# Altium schematic symbol library kmilo17pet-TI_RS232.SchLib: 1272 symbols (part 5 of 37)
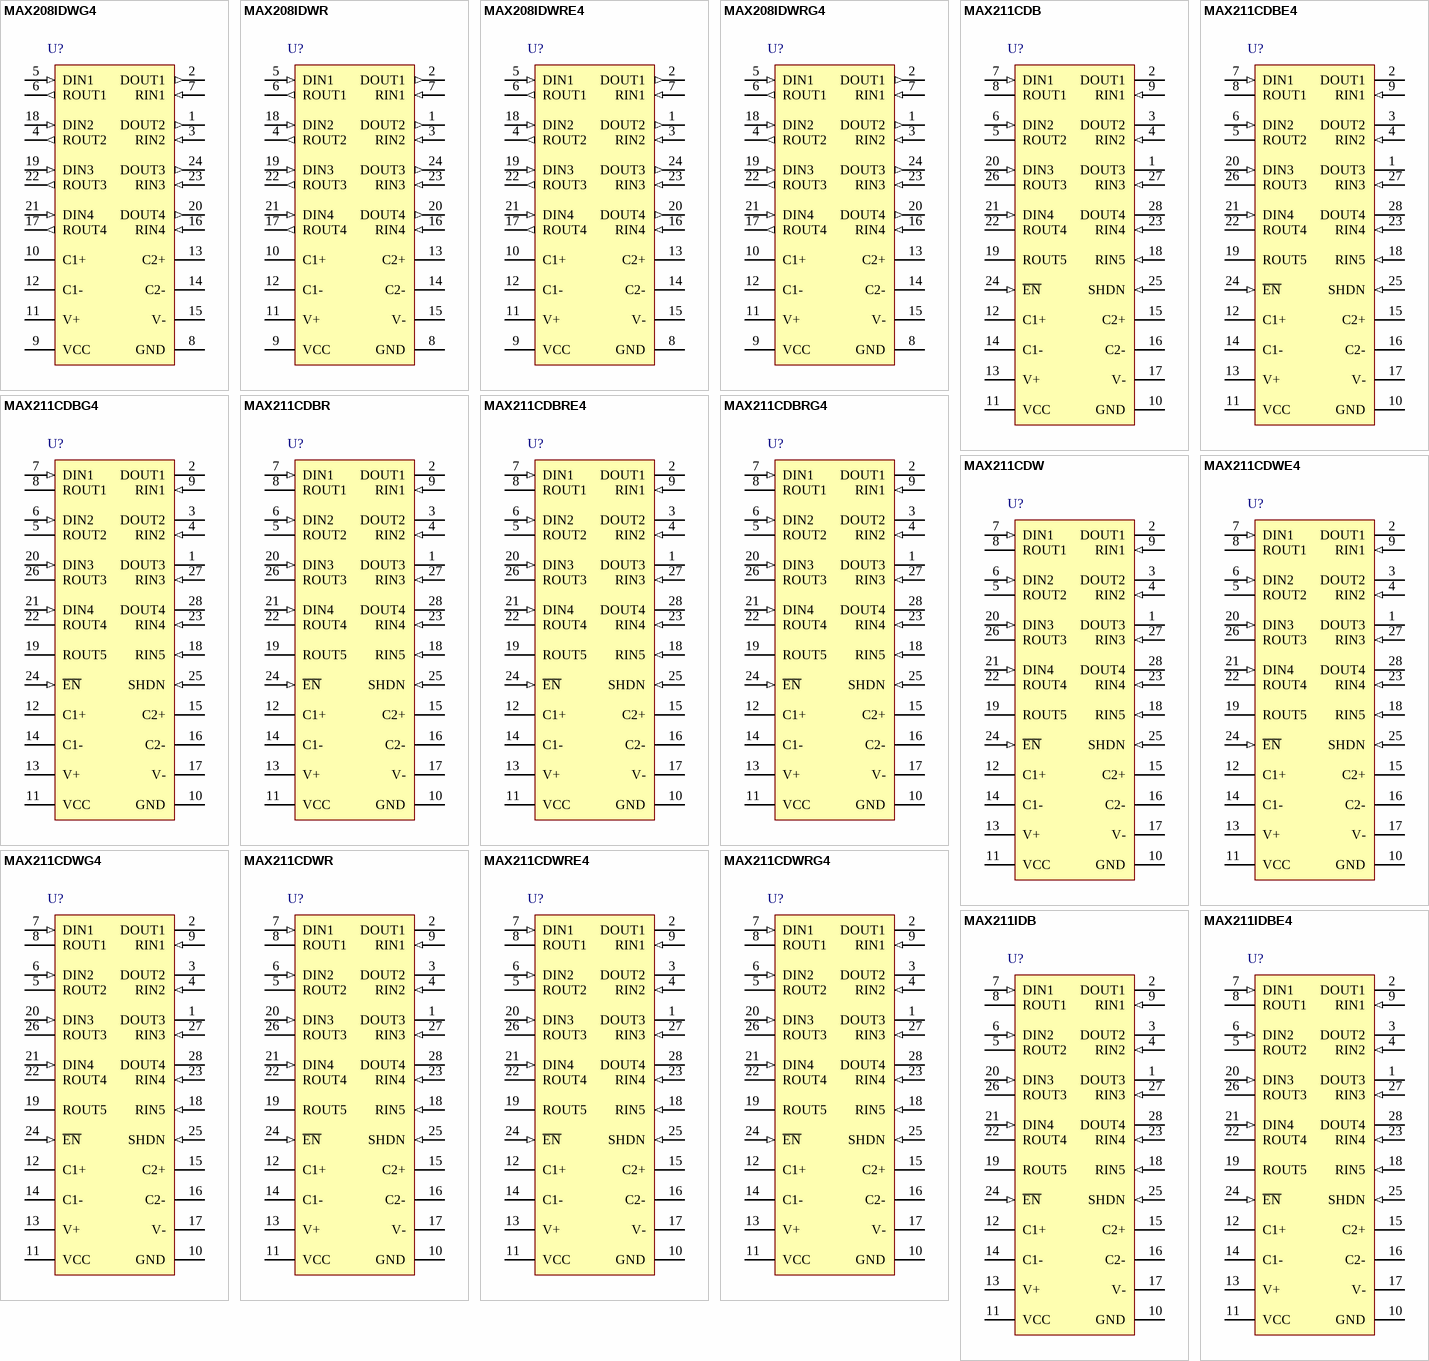
[diagram p58: symbols MAX208IDWG4 to MAX211IDBE4]

## MAX211IDB
designator U?
5-V Multichannel RS-232 Line Driver / Receiver with ±15-kV ESD Protection, -40 to 85 degC, 28-Pin SSOP (DB), Green (RoHS & no Sb/Br); Drivers Per Package: 4; Receivers Per Package: 5; ESD HBM(kV): +/-15; ICC(Max)(mA): 20; Single Supply: TRUE; DatasheetVersion: SLLS567E; PackageVersion: revE, Dec-2001; PackageReference: DB28; PackageDescription: 28-Pin Plastic Small Outline Package, 10.2 x 5.3 mm Body, 0.65 mm Pitch; SubFamily: RS-232; Supply Voltage(s)(V): 5; RS-232: TRUE; ComponentLink1Description: Manufacturer URL; ComponentLink1URL: www.ti.com; ComponentLink2Description: Datasheet; ComponentLink2URL: http://www.ti.com/general/docs/lit/getliterature.tsp?genericPartNumber=MAX211&fileType=pdf; ComponentLink3Description: Package Specification; ComponentLink3URL: http://www.ti.com/litv/pdf/msso002e
footprint TI-DB28_N (SOP, 28-Leads, Body 10.2x5.3mm, Pitch 0.65mm, IPC Medium Density)
footprint TI-DB28_L (SOP, 28-Leads, Body 10.2x5.3mm, Pitch 0.65mm, IPC High Density)
footprint TI-DB28_M (SOP, 28-Leads, Body 10.2x5.3mm, Pitch 0.65mm, IPC Low Density)
pins: 1 DOUT3 (hiz), 2 DOUT1 (hiz), 3 DOUT2 (hiz), 4 RIN2 (in), 5 ROUT2 (hiz), 6 DIN2 (in), 7 DIN1 (in), 8 ROUT1 (hiz), 9 RIN1 (in), 10 GND (power), 11 VCC (power), 12 C1+, 13 V+ (power), 14 C1-, 15 C2+, 16 C2-, 17 V- (power), 18 RIN5 (in), 19 ROUT5 (hiz), 20 DIN3 (in), 21 DIN4 (in), 22 ROUT4 (hiz), 23 RIN4 (in), 24 ~{EN} (in), 25 SHDN (in), 26 ROUT3 (hiz), 27 RIN3 (in), 28 DOUT4 (hiz)

## MAX211IDBE4
designator U?
5-V Multichannel RS-232 Line Driver / Receiver with ±15-kV ESD Protection, -40 to 85 degC, 28-Pin SSOP (DB), Green (RoHS & no Sb/Br); Drivers Per Package: 4; Receivers Per Package: 5; ESD HBM(kV): +/-15; ICC(Max)(mA): 20; Single Supply: TRUE; DatasheetVersion: SLLS567E; PackageVersion: revE, Dec-2001; PackageReference: DB28; PackageDescription: 28-Pin Plastic Small Outline Package, 10.2 x 5.3 mm Body, 0.65 mm Pitch; SubFamily: RS-232; Supply Voltage(s)(V): 5; RS-232: TRUE; ComponentLink1Description: Manufacturer URL; ComponentLink1URL: www.ti.com; ComponentLink2Description: Datasheet; ComponentLink2URL: http://www.ti.com/general/docs/lit/getliterature.tsp?genericPartNumber=MAX211&fileType=pdf; ComponentLink3Description: Package Specification; ComponentLink3URL: http://www.ti.com/litv/pdf/msso002e
footprint TI-DB28_N (SOP, 28-Leads, Body 10.2x5.3mm, Pitch 0.65mm, IPC Medium Density)
footprint TI-DB28_L (SOP, 28-Leads, Body 10.2x5.3mm, Pitch 0.65mm, IPC High Density)
footprint TI-DB28_M (SOP, 28-Leads, Body 10.2x5.3mm, Pitch 0.65mm, IPC Low Density)
pins: 1 DOUT3 (hiz), 2 DOUT1 (hiz), 3 DOUT2 (hiz), 4 RIN2 (in), 5 ROUT2 (hiz), 6 DIN2 (in), 7 DIN1 (in), 8 ROUT1 (hiz), 9 RIN1 (in), 10 GND (power), 11 VCC (power), 12 C1+, 13 V+ (power), 14 C1-, 15 C2+, 16 C2-, 17 V- (power), 18 RIN5 (in), 19 ROUT5 (hiz), 20 DIN3 (in), 21 DIN4 (in), 22 ROUT4 (hiz), 23 RIN4 (in), 24 ~{EN} (in), 25 SHDN (in), 26 ROUT3 (hiz), 27 RIN3 (in), 28 DOUT4 (hiz)

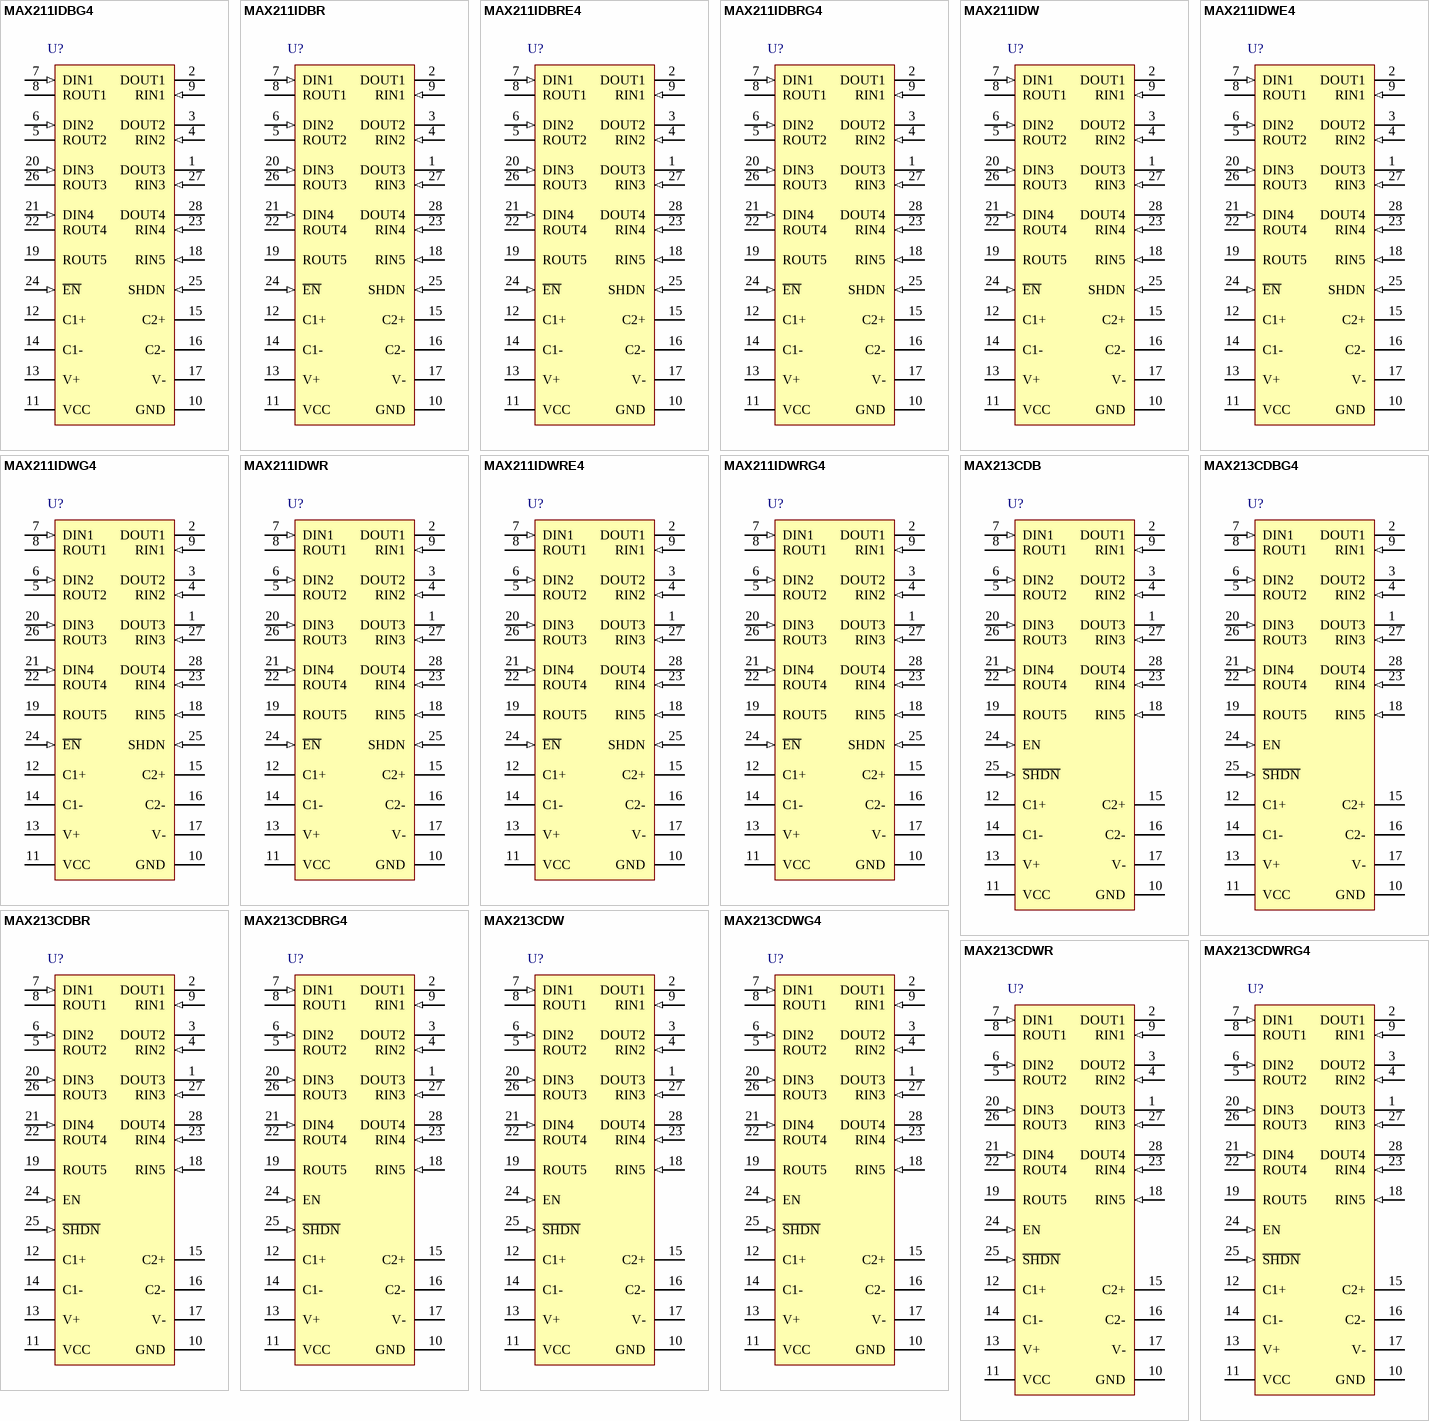
[diagram p6: symbols MAX211IDBG4 to MAX213CDWRG4]

## MAX211IDBG4
designator U?
5-V Multichannel RS-232 Line Driver / Receiver with ±15-kV ESD Protection, -40 to 85 degC, 28-Pin SSOP (DB), Green (RoHS & no Sb/Br); Drivers Per Package: 4; Receivers Per Package: 5; ESD HBM(kV): +/-15; ICC(Max)(mA): 20; Single Supply: TRUE; DatasheetVersion: SLLS567E; PackageVersion: revE, Dec-2001; PackageReference: DB28; PackageDescription: 28-Pin Plastic Small Outline Package, 10.2 x 5.3 mm Body, 0.65 mm Pitch; SubFamily: RS-232; Supply Voltage(s)(V): 5; RS-232: TRUE; ComponentLink1Description: Manufacturer URL; ComponentLink1URL: www.ti.com; ComponentLink2Description: Datasheet; ComponentLink2URL: http://www.ti.com/general/docs/lit/getliterature.tsp?genericPartNumber=MAX211&fileType=pdf; ComponentLink3Description: Package Specification; ComponentLink3URL: http://www.ti.com/litv/pdf/msso002e
footprint TI-DB28_N (SOP, 28-Leads, Body 10.2x5.3mm, Pitch 0.65mm, IPC Medium Density)
footprint TI-DB28_L (SOP, 28-Leads, Body 10.2x5.3mm, Pitch 0.65mm, IPC High Density)
footprint TI-DB28_M (SOP, 28-Leads, Body 10.2x5.3mm, Pitch 0.65mm, IPC Low Density)
pins: 1 DOUT3 (hiz), 2 DOUT1 (hiz), 3 DOUT2 (hiz), 4 RIN2 (in), 5 ROUT2 (hiz), 6 DIN2 (in), 7 DIN1 (in), 8 ROUT1 (hiz), 9 RIN1 (in), 10 GND (power), 11 VCC (power), 12 C1+, 13 V+ (power), 14 C1-, 15 C2+, 16 C2-, 17 V- (power), 18 RIN5 (in), 19 ROUT5 (hiz), 20 DIN3 (in), 21 DIN4 (in), 22 ROUT4 (hiz), 23 RIN4 (in), 24 ~{EN} (in), 25 SHDN (in), 26 ROUT3 (hiz), 27 RIN3 (in), 28 DOUT4 (hiz)

## MAX211IDBR
designator U?
5-V Multichannel RS-232 Line Driver / Receiver with ±15-kV ESD Protection, -40 to 85 degC, 28-Pin SSOP (DB), Green (RoHS & no Sb/Br); Drivers Per Package: 4; Receivers Per Package: 5; ESD HBM(kV): +/-15; ICC(Max)(mA): 20; Single Supply: TRUE; DatasheetVersion: SLLS567E; PackageVersion: revE, Dec-2001; PackageReference: DB28; PackageDescription: 28-Pin Plastic Small Outline Package, 10.2 x 5.3 mm Body, 0.65 mm Pitch; SubFamily: RS-232; Supply Voltage(s)(V): 5; RS-232: TRUE; ComponentLink1Description: Manufacturer URL; ComponentLink1URL: www.ti.com; ComponentLink2Description: Datasheet; ComponentLink2URL: http://www.ti.com/general/docs/lit/getliterature.tsp?genericPartNumber=MAX211&fileType=pdf; ComponentLink3Description: Package Specification; ComponentLink3URL: http://www.ti.com/litv/pdf/msso002e
footprint TI-DB28_N (SOP, 28-Leads, Body 10.2x5.3mm, Pitch 0.65mm, IPC Medium Density)
footprint TI-DB28_L (SOP, 28-Leads, Body 10.2x5.3mm, Pitch 0.65mm, IPC High Density)
footprint TI-DB28_M (SOP, 28-Leads, Body 10.2x5.3mm, Pitch 0.65mm, IPC Low Density)
pins: 1 DOUT3 (hiz), 2 DOUT1 (hiz), 3 DOUT2 (hiz), 4 RIN2 (in), 5 ROUT2 (hiz), 6 DIN2 (in), 7 DIN1 (in), 8 ROUT1 (hiz), 9 RIN1 (in), 10 GND (power), 11 VCC (power), 12 C1+, 13 V+ (power), 14 C1-, 15 C2+, 16 C2-, 17 V- (power), 18 RIN5 (in), 19 ROUT5 (hiz), 20 DIN3 (in), 21 DIN4 (in), 22 ROUT4 (hiz), 23 RIN4 (in), 24 ~{EN} (in), 25 SHDN (in), 26 ROUT3 (hiz), 27 RIN3 (in), 28 DOUT4 (hiz)

## MAX211IDBRE4
designator U?
5-V Multichannel RS-232 Line Driver / Receiver with ±15-kV ESD Protection, -40 to 85 degC, 28-Pin SSOP (DB), Green (RoHS & no Sb/Br); Drivers Per Package: 4; Receivers Per Package: 5; ESD HBM(kV): +/-15; ICC(Max)(mA): 20; Single Supply: TRUE; DatasheetVersion: SLLS567E; PackageVersion: revE, Dec-2001; PackageReference: DB28; PackageDescription: 28-Pin Plastic Small Outline Package, 10.2 x 5.3 mm Body, 0.65 mm Pitch; SubFamily: RS-232; Supply Voltage(s)(V): 5; RS-232: TRUE; ComponentLink1Description: Manufacturer URL; ComponentLink1URL: www.ti.com; ComponentLink2Description: Datasheet; ComponentLink2URL: http://www.ti.com/general/docs/lit/getliterature.tsp?genericPartNumber=MAX211&fileType=pdf; ComponentLink3Description: Package Specification; ComponentLink3URL: http://www.ti.com/litv/pdf/msso002e
footprint TI-DB28_N (SOP, 28-Leads, Body 10.2x5.3mm, Pitch 0.65mm, IPC Medium Density)
footprint TI-DB28_L (SOP, 28-Leads, Body 10.2x5.3mm, Pitch 0.65mm, IPC High Density)
footprint TI-DB28_M (SOP, 28-Leads, Body 10.2x5.3mm, Pitch 0.65mm, IPC Low Density)
pins: 1 DOUT3 (hiz), 2 DOUT1 (hiz), 3 DOUT2 (hiz), 4 RIN2 (in), 5 ROUT2 (hiz), 6 DIN2 (in), 7 DIN1 (in), 8 ROUT1 (hiz), 9 RIN1 (in), 10 GND (power), 11 VCC (power), 12 C1+, 13 V+ (power), 14 C1-, 15 C2+, 16 C2-, 17 V- (power), 18 RIN5 (in), 19 ROUT5 (hiz), 20 DIN3 (in), 21 DIN4 (in), 22 ROUT4 (hiz), 23 RIN4 (in), 24 ~{EN} (in), 25 SHDN (in), 26 ROUT3 (hiz), 27 RIN3 (in), 28 DOUT4 (hiz)

## MAX211IDBRG4
designator U?
5-V Multichannel RS-232 Line Driver / Receiver with ±15-kV ESD Protection, -40 to 85 degC, 28-Pin SSOP (DB), Green (RoHS & no Sb/Br); Drivers Per Package: 4; Receivers Per Package: 5; ESD HBM(kV): +/-15; ICC(Max)(mA): 20; Single Supply: TRUE; DatasheetVersion: SLLS567E; PackageVersion: revE, Dec-2001; PackageReference: DB28; PackageDescription: 28-Pin Plastic Small Outline Package, 10.2 x 5.3 mm Body, 0.65 mm Pitch; SubFamily: RS-232; Supply Voltage(s)(V): 5; RS-232: TRUE; ComponentLink1Description: Manufacturer URL; ComponentLink1URL: www.ti.com; ComponentLink2Description: Datasheet; ComponentLink2URL: http://www.ti.com/general/docs/lit/getliterature.tsp?genericPartNumber=MAX211&fileType=pdf; ComponentLink3Description: Package Specification; ComponentLink3URL: http://www.ti.com/litv/pdf/msso002e
footprint TI-DB28_N (SOP, 28-Leads, Body 10.2x5.3mm, Pitch 0.65mm, IPC Medium Density)
footprint TI-DB28_L (SOP, 28-Leads, Body 10.2x5.3mm, Pitch 0.65mm, IPC High Density)
footprint TI-DB28_M (SOP, 28-Leads, Body 10.2x5.3mm, Pitch 0.65mm, IPC Low Density)
pins: 1 DOUT3 (hiz), 2 DOUT1 (hiz), 3 DOUT2 (hiz), 4 RIN2 (in), 5 ROUT2 (hiz), 6 DIN2 (in), 7 DIN1 (in), 8 ROUT1 (hiz), 9 RIN1 (in), 10 GND (power), 11 VCC (power), 12 C1+, 13 V+ (power), 14 C1-, 15 C2+, 16 C2-, 17 V- (power), 18 RIN5 (in), 19 ROUT5 (hiz), 20 DIN3 (in), 21 DIN4 (in), 22 ROUT4 (hiz), 23 RIN4 (in), 24 ~{EN} (in), 25 SHDN (in), 26 ROUT3 (hiz), 27 RIN3 (in), 28 DOUT4 (hiz)

## MAX211IDW
designator U?
5-V Multichannel RS-232 Line Driver / Receiver with ±15-kV ESD Protection, -40 to 85 degC, 28-Pin SOIC (DW), Green (RoHS & no Sb/Br); Drivers Per Package: 4; Receivers Per Package: 5; ESD HBM(kV): +/-15; ICC(Max)(mA): 20; Single Supply: TRUE; DatasheetVersion: SLLS567E; PackageVersion: revG, Jan-2011; PackageReference: DW28; PackageDescription: 28-Pin Plastic Small Outline Integrated Circuit, 17.9 x 7.5 mm, Pitch 1.27 mm Pitch; SubFamily: RS-232; Supply Voltage(s)(V): 5; RS-232: TRUE; ComponentLink1Description: Manufacturer URL; ComponentLink1URL: www.ti.com; ComponentLink2Description: Datasheet; ComponentLink2URL: http://www.ti.com/general/docs/lit/getliterature.tsp?genericPartNumber=MAX211&fileType=pdf; ComponentLink3Description: Package Specification; ComponentLink3URL: http://www.ti.com/litv/pdf/mpds175a
footprint TI-DW28_N (SOIC, 28-Leads, Body 17.9x7.5mm, Pitch 1.27mm, IPC Medium Density)
footprint TI-DW28_L (SOIC, 28-Leads, Body 17.9x7.5mm, Pitch 1.27mm, IPC High Density)
footprint TI-DW28_M (SOIC, 28-Leads, Body 17.9x7.5mm, Pitch 1.27mm, IPC Low Density)
pins: 1 DOUT3 (hiz), 2 DOUT1 (hiz), 3 DOUT2 (hiz), 4 RIN2 (in), 5 ROUT2 (hiz), 6 DIN2 (in), 7 DIN1 (in), 8 ROUT1 (hiz), 9 RIN1 (in), 10 GND (power), 11 VCC (power), 12 C1+, 13 V+ (power), 14 C1-, 15 C2+, 16 C2-, 17 V- (power), 18 RIN5 (in), 19 ROUT5 (hiz), 20 DIN3 (in), 21 DIN4 (in), 22 ROUT4 (hiz), 23 RIN4 (in), 24 ~{EN} (in), 25 SHDN (in), 26 ROUT3 (hiz), 27 RIN3 (in), 28 DOUT4 (hiz)

## MAX211IDWE4
designator U?
5-V Multichannel RS-232 Line Driver / Receiver with ±15-kV ESD Protection, -40 to 85 degC, 28-Pin SOIC (DW), Green (RoHS & no Sb/Br); Drivers Per Package: 4; Receivers Per Package: 5; ESD HBM(kV): +/-15; ICC(Max)(mA): 20; Single Supply: TRUE; DatasheetVersion: SLLS567E; PackageVersion: revG, Jan-2011; PackageReference: DW28; PackageDescription: 28-Pin Plastic Small Outline Integrated Circuit, 17.9 x 7.5 mm, Pitch 1.27 mm Pitch; SubFamily: RS-232; Supply Voltage(s)(V): 5; RS-232: TRUE; ComponentLink1Description: Manufacturer URL; ComponentLink1URL: www.ti.com; ComponentLink2Description: Datasheet; ComponentLink2URL: http://www.ti.com/general/docs/lit/getliterature.tsp?genericPartNumber=MAX211&fileType=pdf; ComponentLink3Description: Package Specification; ComponentLink3URL: http://www.ti.com/litv/pdf/mpds175a
footprint TI-DW28_N (SOIC, 28-Leads, Body 17.9x7.5mm, Pitch 1.27mm, IPC Medium Density)
footprint TI-DW28_L (SOIC, 28-Leads, Body 17.9x7.5mm, Pitch 1.27mm, IPC High Density)
footprint TI-DW28_M (SOIC, 28-Leads, Body 17.9x7.5mm, Pitch 1.27mm, IPC Low Density)
pins: 1 DOUT3 (hiz), 2 DOUT1 (hiz), 3 DOUT2 (hiz), 4 RIN2 (in), 5 ROUT2 (hiz), 6 DIN2 (in), 7 DIN1 (in), 8 ROUT1 (hiz), 9 RIN1 (in), 10 GND (power), 11 VCC (power), 12 C1+, 13 V+ (power), 14 C1-, 15 C2+, 16 C2-, 17 V- (power), 18 RIN5 (in), 19 ROUT5 (hiz), 20 DIN3 (in), 21 DIN4 (in), 22 ROUT4 (hiz), 23 RIN4 (in), 24 ~{EN} (in), 25 SHDN (in), 26 ROUT3 (hiz), 27 RIN3 (in), 28 DOUT4 (hiz)

## MAX211IDWG4
designator U?
5-V Multichannel RS-232 Line Driver / Receiver with ±15-kV ESD Protection, -40 to 85 degC, 28-Pin SOIC (DW), Green (RoHS & no Sb/Br); Drivers Per Package: 4; Receivers Per Package: 5; ESD HBM(kV): +/-15; ICC(Max)(mA): 20; Single Supply: TRUE; DatasheetVersion: SLLS567E; PackageVersion: revG, Jan-2011; PackageReference: DW28; PackageDescription: 28-Pin Plastic Small Outline Integrated Circuit, 17.9 x 7.5 mm, Pitch 1.27 mm Pitch; SubFamily: RS-232; Supply Voltage(s)(V): 5; RS-232: TRUE; ComponentLink1Description: Manufacturer URL; ComponentLink1URL: www.ti.com; ComponentLink2Description: Datasheet; ComponentLink2URL: http://www.ti.com/general/docs/lit/getliterature.tsp?genericPartNumber=MAX211&fileType=pdf; ComponentLink3Description: Package Specification; ComponentLink3URL: http://www.ti.com/litv/pdf/mpds175a
footprint TI-DW28_N (SOIC, 28-Leads, Body 17.9x7.5mm, Pitch 1.27mm, IPC Medium Density)
footprint TI-DW28_L (SOIC, 28-Leads, Body 17.9x7.5mm, Pitch 1.27mm, IPC High Density)
footprint TI-DW28_M (SOIC, 28-Leads, Body 17.9x7.5mm, Pitch 1.27mm, IPC Low Density)
pins: 1 DOUT3 (hiz), 2 DOUT1 (hiz), 3 DOUT2 (hiz), 4 RIN2 (in), 5 ROUT2 (hiz), 6 DIN2 (in), 7 DIN1 (in), 8 ROUT1 (hiz), 9 RIN1 (in), 10 GND (power), 11 VCC (power), 12 C1+, 13 V+ (power), 14 C1-, 15 C2+, 16 C2-, 17 V- (power), 18 RIN5 (in), 19 ROUT5 (hiz), 20 DIN3 (in), 21 DIN4 (in), 22 ROUT4 (hiz), 23 RIN4 (in), 24 ~{EN} (in), 25 SHDN (in), 26 ROUT3 (hiz), 27 RIN3 (in), 28 DOUT4 (hiz)

## MAX211IDWR
designator U?
5-V Multichannel RS-232 Line Driver / Receiver with ±15-kV ESD Protection, -40 to 85 degC, 28-Pin SOIC (DW), Green (RoHS & no Sb/Br); Drivers Per Package: 4; Receivers Per Package: 5; ESD HBM(kV): +/-15; ICC(Max)(mA): 20; Single Supply: TRUE; DatasheetVersion: SLLS567E; PackageVersion: revG, Jan-2011; PackageReference: DW28; PackageDescription: 28-Pin Plastic Small Outline Integrated Circuit, 17.9 x 7.5 mm, Pitch 1.27 mm Pitch; SubFamily: RS-232; Supply Voltage(s)(V): 5; RS-232: TRUE; ComponentLink1Description: Manufacturer URL; ComponentLink1URL: www.ti.com; ComponentLink2Description: Datasheet; ComponentLink2URL: http://www.ti.com/general/docs/lit/getliterature.tsp?genericPartNumber=MAX211&fileType=pdf; ComponentLink3Description: Package Specification; ComponentLink3URL: http://www.ti.com/litv/pdf/mpds175a
footprint TI-DW28_N (SOIC, 28-Leads, Body 17.9x7.5mm, Pitch 1.27mm, IPC Medium Density)
footprint TI-DW28_L (SOIC, 28-Leads, Body 17.9x7.5mm, Pitch 1.27mm, IPC High Density)
footprint TI-DW28_M (SOIC, 28-Leads, Body 17.9x7.5mm, Pitch 1.27mm, IPC Low Density)
pins: 1 DOUT3 (hiz), 2 DOUT1 (hiz), 3 DOUT2 (hiz), 4 RIN2 (in), 5 ROUT2 (hiz), 6 DIN2 (in), 7 DIN1 (in), 8 ROUT1 (hiz), 9 RIN1 (in), 10 GND (power), 11 VCC (power), 12 C1+, 13 V+ (power), 14 C1-, 15 C2+, 16 C2-, 17 V- (power), 18 RIN5 (in), 19 ROUT5 (hiz), 20 DIN3 (in), 21 DIN4 (in), 22 ROUT4 (hiz), 23 RIN4 (in), 24 ~{EN} (in), 25 SHDN (in), 26 ROUT3 (hiz), 27 RIN3 (in), 28 DOUT4 (hiz)

## MAX211IDWRE4
designator U?
5-V Multichannel RS-232 Line Driver / Receiver with ±15-kV ESD Protection, -40 to 85 degC, 28-Pin SOIC (DW), Green (RoHS & no Sb/Br); Drivers Per Package: 4; Receivers Per Package: 5; ESD HBM(kV): +/-15; ICC(Max)(mA): 20; Single Supply: TRUE; DatasheetVersion: SLLS567E; PackageVersion: revG, Jan-2011; PackageReference: DW28; PackageDescription: 28-Pin Plastic Small Outline Integrated Circuit, 17.9 x 7.5 mm, Pitch 1.27 mm Pitch; SubFamily: RS-232; Supply Voltage(s)(V): 5; RS-232: TRUE; ComponentLink1Description: Manufacturer URL; ComponentLink1URL: www.ti.com; ComponentLink2Description: Datasheet; ComponentLink2URL: http://www.ti.com/general/docs/lit/getliterature.tsp?genericPartNumber=MAX211&fileType=pdf; ComponentLink3Description: Package Specification; ComponentLink3URL: http://www.ti.com/litv/pdf/mpds175a
footprint TI-DW28_N (SOIC, 28-Leads, Body 17.9x7.5mm, Pitch 1.27mm, IPC Medium Density)
footprint TI-DW28_L (SOIC, 28-Leads, Body 17.9x7.5mm, Pitch 1.27mm, IPC High Density)
footprint TI-DW28_M (SOIC, 28-Leads, Body 17.9x7.5mm, Pitch 1.27mm, IPC Low Density)
pins: 1 DOUT3 (hiz), 2 DOUT1 (hiz), 3 DOUT2 (hiz), 4 RIN2 (in), 5 ROUT2 (hiz), 6 DIN2 (in), 7 DIN1 (in), 8 ROUT1 (hiz), 9 RIN1 (in), 10 GND (power), 11 VCC (power), 12 C1+, 13 V+ (power), 14 C1-, 15 C2+, 16 C2-, 17 V- (power), 18 RIN5 (in), 19 ROUT5 (hiz), 20 DIN3 (in), 21 DIN4 (in), 22 ROUT4 (hiz), 23 RIN4 (in), 24 ~{EN} (in), 25 SHDN (in), 26 ROUT3 (hiz), 27 RIN3 (in), 28 DOUT4 (hiz)

## MAX211IDWRG4
designator U?
5-V Multichannel RS-232 Line Driver / Receiver with ±15-kV ESD Protection, -40 to 85 degC, 28-Pin SOIC (DW), Green (RoHS & no Sb/Br); Drivers Per Package: 4; Receivers Per Package: 5; ESD HBM(kV): +/-15; ICC(Max)(mA): 20; Single Supply: TRUE; DatasheetVersion: SLLS567E; PackageVersion: revG, Jan-2011; PackageReference: DW28; PackageDescription: 28-Pin Plastic Small Outline Integrated Circuit, 17.9 x 7.5 mm, Pitch 1.27 mm Pitch; SubFamily: RS-232; Supply Voltage(s)(V): 5; RS-232: TRUE; ComponentLink1Description: Manufacturer URL; ComponentLink1URL: www.ti.com; ComponentLink2Description: Datasheet; ComponentLink2URL: http://www.ti.com/general/docs/lit/getliterature.tsp?genericPartNumber=MAX211&fileType=pdf; ComponentLink3Description: Package Specification; ComponentLink3URL: http://www.ti.com/litv/pdf/mpds175a
footprint TI-DW28_N (SOIC, 28-Leads, Body 17.9x7.5mm, Pitch 1.27mm, IPC Medium Density)
footprint TI-DW28_L (SOIC, 28-Leads, Body 17.9x7.5mm, Pitch 1.27mm, IPC High Density)
footprint TI-DW28_M (SOIC, 28-Leads, Body 17.9x7.5mm, Pitch 1.27mm, IPC Low Density)
pins: 1 DOUT3 (hiz), 2 DOUT1 (hiz), 3 DOUT2 (hiz), 4 RIN2 (in), 5 ROUT2 (hiz), 6 DIN2 (in), 7 DIN1 (in), 8 ROUT1 (hiz), 9 RIN1 (in), 10 GND (power), 11 VCC (power), 12 C1+, 13 V+ (power), 14 C1-, 15 C2+, 16 C2-, 17 V- (power), 18 RIN5 (in), 19 ROUT5 (hiz), 20 DIN3 (in), 21 DIN4 (in), 22 ROUT4 (hiz), 23 RIN4 (in), 24 ~{EN} (in), 25 SHDN (in), 26 ROUT3 (hiz), 27 RIN3 (in), 28 DOUT4 (hiz)

## MAX213CDB
designator U?
5-V Multichannel RS-232 Line Driver / Receiver with ±15-kV ESD Protection, 0 to 70 degC, 28-Pin SSOP (DB), Green (RoHS & no Sb/Br); Drivers Per Package: 4; Receivers Per Package: 5; ESD HBM(kV): +/-15; ICC(Max)(mA): 20; Single Supply: TRUE; DatasheetVersion: SLLS680; PackageVersion: revE, Dec-2001; PackageReference: DB28; PackageDescription: 28-Pin Plastic Small Outline Package, 10.2 x 5.3 mm Body, 0.65 mm Pitch; SubFamily: RS-232; Supply Voltage(s)(V): 5; RS-232: TRUE; ComponentLink1Description: Manufacturer URL; ComponentLink1URL: www.ti.com; ComponentLink2Description: Datasheet; ComponentLink2URL: http://www.ti.com/general/docs/lit/getliterature.tsp?genericPartNumber=MAX213&fileType=pdf; ComponentLink3Description: Package Specification; ComponentLink3URL: http://www.ti.com/litv/pdf/msso002e
footprint TI-DB28_N (SOP, 28-Leads, Body 10.2x5.3mm, Pitch 0.65mm, IPC Medium Density)
footprint TI-DB28_L (SOP, 28-Leads, Body 10.2x5.3mm, Pitch 0.65mm, IPC High Density)
footprint TI-DB28_M (SOP, 28-Leads, Body 10.2x5.3mm, Pitch 0.65mm, IPC Low Density)
pins: 1 DOUT3 (hiz), 2 DOUT1 (hiz), 3 DOUT2 (hiz), 4 RIN2 (in), 5 ROUT2 (hiz), 6 DIN2 (in), 7 DIN1 (in), 8 ROUT1 (hiz), 9 RIN1 (in), 10 GND (power), 11 VCC (power), 12 C1+, 13 V+ (power), 14 C1-, 15 C2+, 16 C2-, 17 V- (power), 18 RIN5 (in), 19 ROUT5 (hiz), 20 DIN3 (in), 21 DIN4 (in), 22 ROUT4 (hiz), 23 RIN4 (in), 24 EN (in), 25 ~{SHDN} (in), 26 ROUT3 (hiz), 27 RIN3 (in), 28 DOUT4 (hiz)

## MAX213CDBG4
designator U?
5-V Multichannel RS-232 Line Driver / Receiver with ±15-kV ESD Protection, 0 to 70 degC, 28-Pin SSOP (DB), Green (RoHS & no Sb/Br); Drivers Per Package: 4; Receivers Per Package: 5; ESD HBM(kV): +/-15; ICC(Max)(mA): 20; Single Supply: TRUE; DatasheetVersion: SLLS680; PackageVersion: revE, Dec-2001; PackageReference: DB28; PackageDescription: 28-Pin Plastic Small Outline Package, 10.2 x 5.3 mm Body, 0.65 mm Pitch; SubFamily: RS-232; Supply Voltage(s)(V): 5; RS-232: TRUE; ComponentLink1Description: Manufacturer URL; ComponentLink1URL: www.ti.com; ComponentLink2Description: Datasheet; ComponentLink2URL: http://www.ti.com/general/docs/lit/getliterature.tsp?genericPartNumber=MAX213&fileType=pdf; ComponentLink3Description: Package Specification; ComponentLink3URL: http://www.ti.com/litv/pdf/msso002e
footprint TI-DB28_N (SOP, 28-Leads, Body 10.2x5.3mm, Pitch 0.65mm, IPC Medium Density)
footprint TI-DB28_L (SOP, 28-Leads, Body 10.2x5.3mm, Pitch 0.65mm, IPC High Density)
footprint TI-DB28_M (SOP, 28-Leads, Body 10.2x5.3mm, Pitch 0.65mm, IPC Low Density)
pins: 1 DOUT3 (hiz), 2 DOUT1 (hiz), 3 DOUT2 (hiz), 4 RIN2 (in), 5 ROUT2 (hiz), 6 DIN2 (in), 7 DIN1 (in), 8 ROUT1 (hiz), 9 RIN1 (in), 10 GND (power), 11 VCC (power), 12 C1+, 13 V+ (power), 14 C1-, 15 C2+, 16 C2-, 17 V- (power), 18 RIN5 (in), 19 ROUT5 (hiz), 20 DIN3 (in), 21 DIN4 (in), 22 ROUT4 (hiz), 23 RIN4 (in), 24 EN (in), 25 ~{SHDN} (in), 26 ROUT3 (hiz), 27 RIN3 (in), 28 DOUT4 (hiz)

## MAX213CDBR
designator U?
5-V Multichannel RS-232 Line Driver / Receiver with ±15-kV ESD Protection, 0 to 70 degC, 28-Pin SSOP (DB), Green (RoHS & no Sb/Br); Drivers Per Package: 4; Receivers Per Package: 5; ESD HBM(kV): +/-15; ICC(Max)(mA): 20; Single Supply: TRUE; DatasheetVersion: SLLS680; PackageVersion: revE, Dec-2001; PackageReference: DB28; PackageDescription: 28-Pin Plastic Small Outline Package, 10.2 x 5.3 mm Body, 0.65 mm Pitch; SubFamily: RS-232; Supply Voltage(s)(V): 5; RS-232: TRUE; ComponentLink1Description: Manufacturer URL; ComponentLink1URL: www.ti.com; ComponentLink2Description: Datasheet; ComponentLink2URL: http://www.ti.com/general/docs/lit/getliterature.tsp?genericPartNumber=MAX213&fileType=pdf; ComponentLink3Description: Package Specification; ComponentLink3URL: http://www.ti.com/litv/pdf/msso002e
footprint TI-DB28_N (SOP, 28-Leads, Body 10.2x5.3mm, Pitch 0.65mm, IPC Medium Density)
footprint TI-DB28_L (SOP, 28-Leads, Body 10.2x5.3mm, Pitch 0.65mm, IPC High Density)
footprint TI-DB28_M (SOP, 28-Leads, Body 10.2x5.3mm, Pitch 0.65mm, IPC Low Density)
pins: 1 DOUT3 (hiz), 2 DOUT1 (hiz), 3 DOUT2 (hiz), 4 RIN2 (in), 5 ROUT2 (hiz), 6 DIN2 (in), 7 DIN1 (in), 8 ROUT1 (hiz), 9 RIN1 (in), 10 GND (power), 11 VCC (power), 12 C1+, 13 V+ (power), 14 C1-, 15 C2+, 16 C2-, 17 V- (power), 18 RIN5 (in), 19 ROUT5 (hiz), 20 DIN3 (in), 21 DIN4 (in), 22 ROUT4 (hiz), 23 RIN4 (in), 24 EN (in), 25 ~{SHDN} (in), 26 ROUT3 (hiz), 27 RIN3 (in), 28 DOUT4 (hiz)

## MAX213CDBRG4
designator U?
5-V Multichannel RS-232 Line Driver / Receiver with ±15-kV ESD Protection, 0 to 70 degC, 28-Pin SSOP (DB), Green (RoHS & no Sb/Br); Drivers Per Package: 4; Receivers Per Package: 5; ESD HBM(kV): +/-15; ICC(Max)(mA): 20; Single Supply: TRUE; DatasheetVersion: SLLS680; PackageVersion: revE, Dec-2001; PackageReference: DB28; PackageDescription: 28-Pin Plastic Small Outline Package, 10.2 x 5.3 mm Body, 0.65 mm Pitch; SubFamily: RS-232; Supply Voltage(s)(V): 5; RS-232: TRUE; ComponentLink1Description: Manufacturer URL; ComponentLink1URL: www.ti.com; ComponentLink2Description: Datasheet; ComponentLink2URL: http://www.ti.com/general/docs/lit/getliterature.tsp?genericPartNumber=MAX213&fileType=pdf; ComponentLink3Description: Package Specification; ComponentLink3URL: http://www.ti.com/litv/pdf/msso002e
footprint TI-DB28_N (SOP, 28-Leads, Body 10.2x5.3mm, Pitch 0.65mm, IPC Medium Density)
footprint TI-DB28_L (SOP, 28-Leads, Body 10.2x5.3mm, Pitch 0.65mm, IPC High Density)
footprint TI-DB28_M (SOP, 28-Leads, Body 10.2x5.3mm, Pitch 0.65mm, IPC Low Density)
pins: 1 DOUT3 (hiz), 2 DOUT1 (hiz), 3 DOUT2 (hiz), 4 RIN2 (in), 5 ROUT2 (hiz), 6 DIN2 (in), 7 DIN1 (in), 8 ROUT1 (hiz), 9 RIN1 (in), 10 GND (power), 11 VCC (power), 12 C1+, 13 V+ (power), 14 C1-, 15 C2+, 16 C2-, 17 V- (power), 18 RIN5 (in), 19 ROUT5 (hiz), 20 DIN3 (in), 21 DIN4 (in), 22 ROUT4 (hiz), 23 RIN4 (in), 24 EN (in), 25 ~{SHDN} (in), 26 ROUT3 (hiz), 27 RIN3 (in), 28 DOUT4 (hiz)

## MAX213CDW
designator U?
5-V Multichannel RS-232 Line Driver / Receiver with ±15-kV ESD Protection, 0 to 70 degC, 28-Pin SOIC (DW), Green (RoHS & no Sb/Br); Drivers Per Package: 4; Receivers Per Package: 5; ESD HBM(kV): +/-15; ICC(Max)(mA): 20; Single Supply: TRUE; DatasheetVersion: SLLS680; PackageVersion: revG, Jan-2011; PackageReference: DW28; PackageDescription: 28-Pin Plastic Small Outline Integrated Circuit, 17.9 x 7.5 mm, Pitch 1.27 mm Pitch; SubFamily: RS-232; Supply Voltage(s)(V): 5; RS-232: TRUE; ComponentLink1Description: Manufacturer URL; ComponentLink1URL: www.ti.com; ComponentLink2Description: Datasheet; ComponentLink2URL: http://www.ti.com/general/docs/lit/getliterature.tsp?genericPartNumber=MAX213&fileType=pdf; ComponentLink3Description: Package Specification; ComponentLink3URL: http://www.ti.com/litv/pdf/mpds175a
footprint TI-DW28_N (SOIC, 28-Leads, Body 17.9x7.5mm, Pitch 1.27mm, IPC Medium Density)
footprint TI-DW28_L (SOIC, 28-Leads, Body 17.9x7.5mm, Pitch 1.27mm, IPC High Density)
footprint TI-DW28_M (SOIC, 28-Leads, Body 17.9x7.5mm, Pitch 1.27mm, IPC Low Density)
pins: 1 DOUT3 (hiz), 2 DOUT1 (hiz), 3 DOUT2 (hiz), 4 RIN2 (in), 5 ROUT2 (hiz), 6 DIN2 (in), 7 DIN1 (in), 8 ROUT1 (hiz), 9 RIN1 (in), 10 GND (power), 11 VCC (power), 12 C1+, 13 V+ (power), 14 C1-, 15 C2+, 16 C2-, 17 V- (power), 18 RIN5 (in), 19 ROUT5 (hiz), 20 DIN3 (in), 21 DIN4 (in), 22 ROUT4 (hiz), 23 RIN4 (in), 24 EN (in), 25 ~{SHDN} (in), 26 ROUT3 (hiz), 27 RIN3 (in), 28 DOUT4 (hiz)

## MAX213CDWG4
designator U?
5-V Multichannel RS-232 Line Driver / Receiver with ±15-kV ESD Protection, 0 to 70 degC, 28-Pin SOIC (DW), Green (RoHS & no Sb/Br); Drivers Per Package: 4; Receivers Per Package: 5; ESD HBM(kV): +/-15; ICC(Max)(mA): 20; Single Supply: TRUE; DatasheetVersion: SLLS680; PackageVersion: revG, Jan-2011; PackageReference: DW28; PackageDescription: 28-Pin Plastic Small Outline Integrated Circuit, 17.9 x 7.5 mm, Pitch 1.27 mm Pitch; SubFamily: RS-232; Supply Voltage(s)(V): 5; RS-232: TRUE; ComponentLink1Description: Manufacturer URL; ComponentLink1URL: www.ti.com; ComponentLink2Description: Datasheet; ComponentLink2URL: http://www.ti.com/general/docs/lit/getliterature.tsp?genericPartNumber=MAX213&fileType=pdf; ComponentLink3Description: Package Specification; ComponentLink3URL: http://www.ti.com/litv/pdf/mpds175a
footprint TI-DW28_N (SOIC, 28-Leads, Body 17.9x7.5mm, Pitch 1.27mm, IPC Medium Density)
footprint TI-DW28_L (SOIC, 28-Leads, Body 17.9x7.5mm, Pitch 1.27mm, IPC High Density)
footprint TI-DW28_M (SOIC, 28-Leads, Body 17.9x7.5mm, Pitch 1.27mm, IPC Low Density)
pins: 1 DOUT3 (hiz), 2 DOUT1 (hiz), 3 DOUT2 (hiz), 4 RIN2 (in), 5 ROUT2 (hiz), 6 DIN2 (in), 7 DIN1 (in), 8 ROUT1 (hiz), 9 RIN1 (in), 10 GND (power), 11 VCC (power), 12 C1+, 13 V+ (power), 14 C1-, 15 C2+, 16 C2-, 17 V- (power), 18 RIN5 (in), 19 ROUT5 (hiz), 20 DIN3 (in), 21 DIN4 (in), 22 ROUT4 (hiz), 23 RIN4 (in), 24 EN (in), 25 ~{SHDN} (in), 26 ROUT3 (hiz), 27 RIN3 (in), 28 DOUT4 (hiz)

## MAX213CDWR
designator U?
5-V Multichannel RS-232 Line Driver / Receiver with ±15-kV ESD Protection, 0 to 70 degC, 28-Pin SOIC (DW), Green (RoHS & no Sb/Br); Drivers Per Package: 4; Receivers Per Package: 5; ESD HBM(kV): +/-15; ICC(Max)(mA): 20; Single Supply: TRUE; DatasheetVersion: SLLS680; PackageVersion: revG, Jan-2011; PackageReference: DW28; PackageDescription: 28-Pin Plastic Small Outline Integrated Circuit, 17.9 x 7.5 mm, Pitch 1.27 mm Pitch; SubFamily: RS-232; Supply Voltage(s)(V): 5; RS-232: TRUE; ComponentLink1Description: Manufacturer URL; ComponentLink1URL: www.ti.com; ComponentLink2Description: Datasheet; ComponentLink2URL: http://www.ti.com/general/docs/lit/getliterature.tsp?genericPartNumber=MAX213&fileType=pdf; ComponentLink3Description: Package Specification; ComponentLink3URL: http://www.ti.com/litv/pdf/mpds175a
footprint TI-DW28_N (SOIC, 28-Leads, Body 17.9x7.5mm, Pitch 1.27mm, IPC Medium Density)
footprint TI-DW28_L (SOIC, 28-Leads, Body 17.9x7.5mm, Pitch 1.27mm, IPC High Density)
footprint TI-DW28_M (SOIC, 28-Leads, Body 17.9x7.5mm, Pitch 1.27mm, IPC Low Density)
pins: 1 DOUT3 (hiz), 2 DOUT1 (hiz), 3 DOUT2 (hiz), 4 RIN2 (in), 5 ROUT2 (hiz), 6 DIN2 (in), 7 DIN1 (in), 8 ROUT1 (hiz), 9 RIN1 (in), 10 GND (power), 11 VCC (power), 12 C1+, 13 V+ (power), 14 C1-, 15 C2+, 16 C2-, 17 V- (power), 18 RIN5 (in), 19 ROUT5 (hiz), 20 DIN3 (in), 21 DIN4 (in), 22 ROUT4 (hiz), 23 RIN4 (in), 24 EN (in), 25 ~{SHDN} (in), 26 ROUT3 (hiz), 27 RIN3 (in), 28 DOUT4 (hiz)

## MAX213CDWRG4
designator U?
5-V Multichannel RS-232 Line Driver / Receiver with ±15-kV ESD Protection, 0 to 70 degC, 28-Pin SOIC (DW), Green (RoHS & no Sb/Br); Drivers Per Package: 4; Receivers Per Package: 5; ESD HBM(kV): +/-15; ICC(Max)(mA): 20; Single Supply: TRUE; DatasheetVersion: SLLS680; PackageVersion: revG, Jan-2011; PackageReference: DW28; PackageDescription: 28-Pin Plastic Small Outline Integrated Circuit, 17.9 x 7.5 mm, Pitch 1.27 mm Pitch; SubFamily: RS-232; Supply Voltage(s)(V): 5; RS-232: TRUE; ComponentLink1Description: Manufacturer URL; ComponentLink1URL: www.ti.com; ComponentLink2Description: Datasheet; ComponentLink2URL: http://www.ti.com/general/docs/lit/getliterature.tsp?genericPartNumber=MAX213&fileType=pdf; ComponentLink3Description: Package Specification; ComponentLink3URL: http://www.ti.com/litv/pdf/mpds175a
footprint TI-DW28_N (SOIC, 28-Leads, Body 17.9x7.5mm, Pitch 1.27mm, IPC Medium Density)
footprint TI-DW28_L (SOIC, 28-Leads, Body 17.9x7.5mm, Pitch 1.27mm, IPC High Density)
footprint TI-DW28_M (SOIC, 28-Leads, Body 17.9x7.5mm, Pitch 1.27mm, IPC Low Density)
pins: 1 DOUT3 (hiz), 2 DOUT1 (hiz), 3 DOUT2 (hiz), 4 RIN2 (in), 5 ROUT2 (hiz), 6 DIN2 (in), 7 DIN1 (in), 8 ROUT1 (hiz), 9 RIN1 (in), 10 GND (power), 11 VCC (power), 12 C1+, 13 V+ (power), 14 C1-, 15 C2+, 16 C2-, 17 V- (power), 18 RIN5 (in), 19 ROUT5 (hiz), 20 DIN3 (in), 21 DIN4 (in), 22 ROUT4 (hiz), 23 RIN4 (in), 24 EN (in), 25 ~{SHDN} (in), 26 ROUT3 (hiz), 27 RIN3 (in), 28 DOUT4 (hiz)

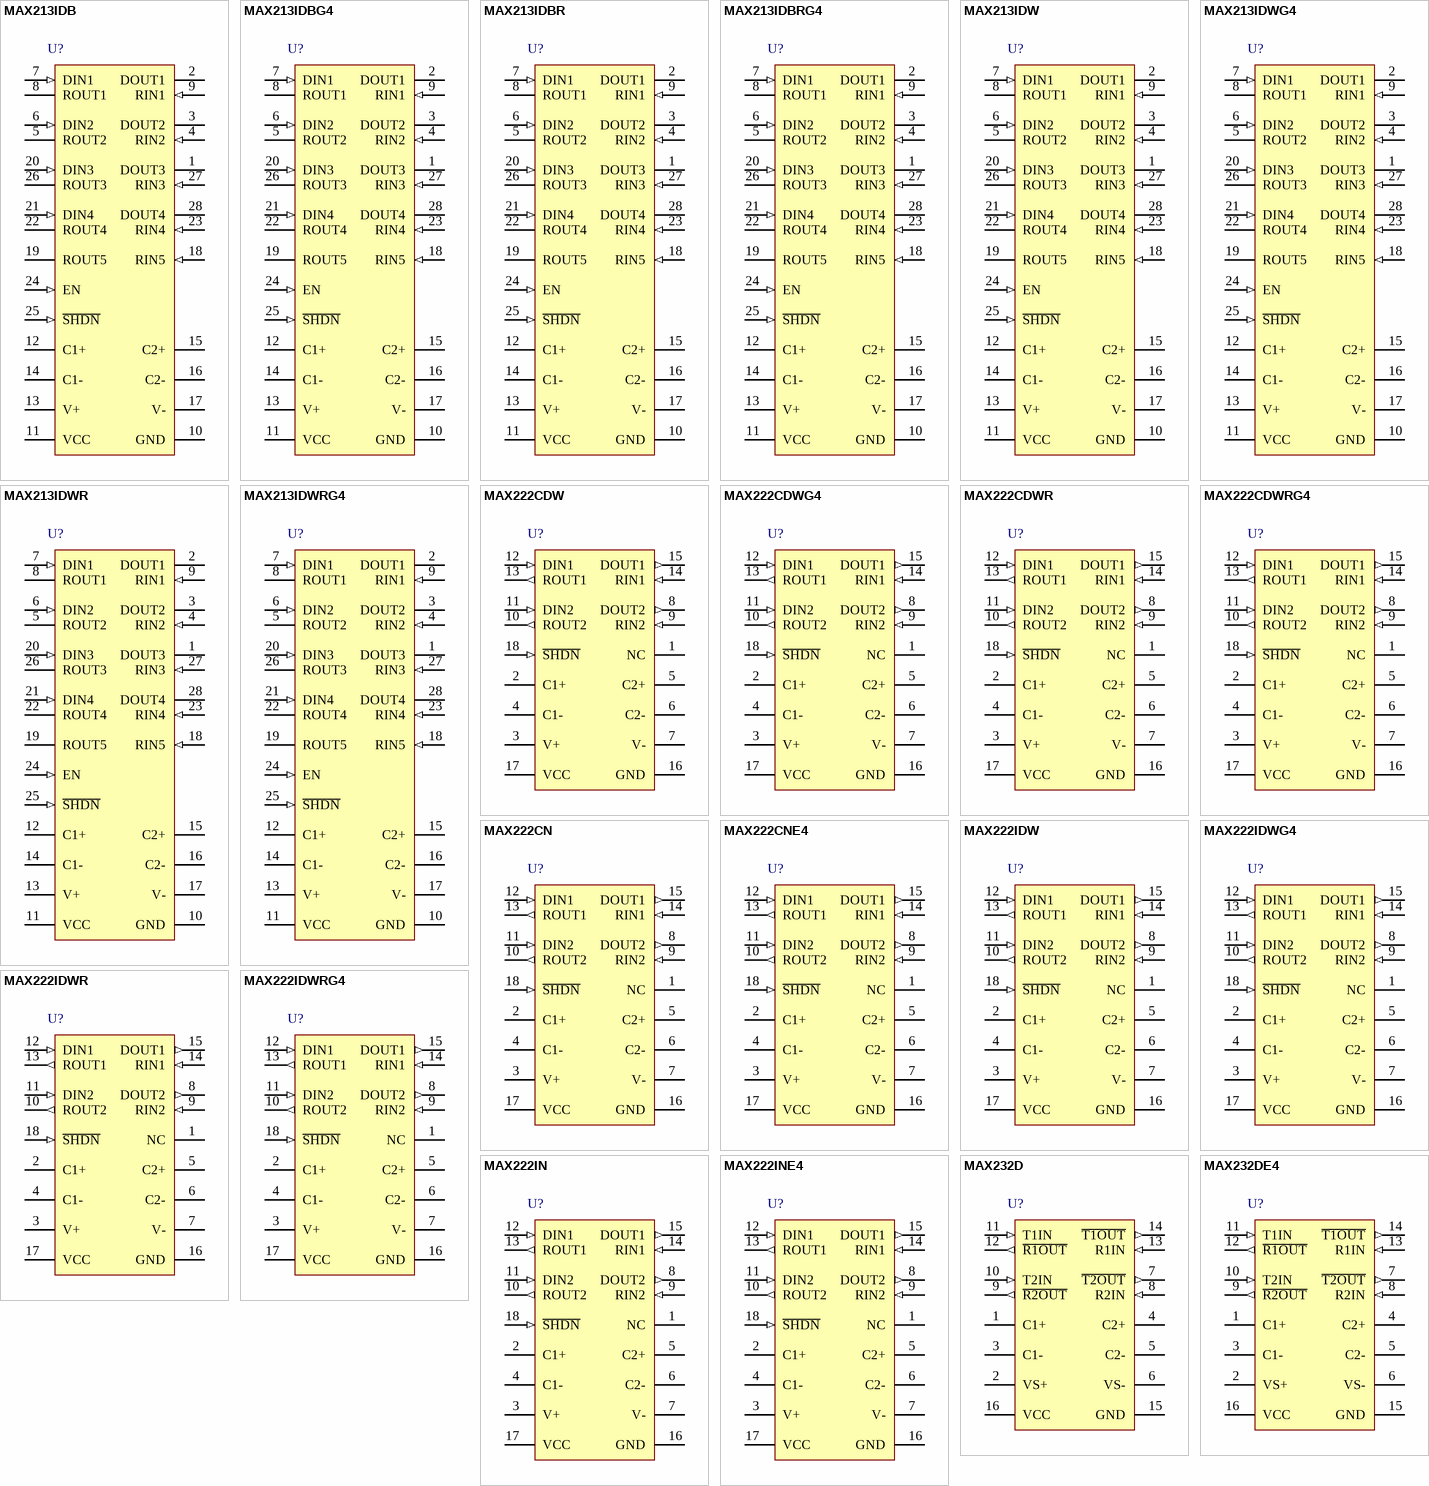
[diagram p7: symbols MAX213IDB to MAX232DE4]

## MAX213IDB
designator U?
5-V Multichannel RS-232 Line Driver / Receiver with ±15-kV ESD Protection, -40 to 85 degC, 28-Pin SSOP (DB), Green (RoHS & no Sb/Br); Drivers Per Package: 4; Receivers Per Package: 5; ESD HBM(kV): +/-15; ICC(Max)(mA): 20; Single Supply: TRUE; DatasheetVersion: SLLS680; PackageVersion: revE, Dec-2001; PackageReference: DB28; PackageDescription: 28-Pin Plastic Small Outline Package, 10.2 x 5.3 mm Body, 0.65 mm Pitch; SubFamily: RS-232; Supply Voltage(s)(V): 5; RS-232: TRUE; ComponentLink1Description: Manufacturer URL; ComponentLink1URL: www.ti.com; ComponentLink2Description: Datasheet; ComponentLink2URL: http://www.ti.com/general/docs/lit/getliterature.tsp?genericPartNumber=MAX213&fileType=pdf; ComponentLink3Description: Package Specification; ComponentLink3URL: http://www.ti.com/litv/pdf/msso002e
footprint TI-DB28_N (SOP, 28-Leads, Body 10.2x5.3mm, Pitch 0.65mm, IPC Medium Density)
footprint TI-DB28_L (SOP, 28-Leads, Body 10.2x5.3mm, Pitch 0.65mm, IPC High Density)
footprint TI-DB28_M (SOP, 28-Leads, Body 10.2x5.3mm, Pitch 0.65mm, IPC Low Density)
pins: 1 DOUT3 (hiz), 2 DOUT1 (hiz), 3 DOUT2 (hiz), 4 RIN2 (in), 5 ROUT2 (hiz), 6 DIN2 (in), 7 DIN1 (in), 8 ROUT1 (hiz), 9 RIN1 (in), 10 GND (power), 11 VCC (power), 12 C1+, 13 V+ (power), 14 C1-, 15 C2+, 16 C2-, 17 V- (power), 18 RIN5 (in), 19 ROUT5 (hiz), 20 DIN3 (in), 21 DIN4 (in), 22 ROUT4 (hiz), 23 RIN4 (in), 24 EN (in), 25 ~{SHDN} (in), 26 ROUT3 (hiz), 27 RIN3 (in), 28 DOUT4 (hiz)

## MAX213IDBG4
designator U?
5-V Multichannel RS-232 Line Driver / Receiver with ±15-kV ESD Protection, -40 to 85 degC, 28-Pin SSOP (DB), Green (RoHS & no Sb/Br); Drivers Per Package: 4; Receivers Per Package: 5; ESD HBM(kV): +/-15; ICC(Max)(mA): 20; Single Supply: TRUE; DatasheetVersion: SLLS680; PackageVersion: revE, Dec-2001; PackageReference: DB28; PackageDescription: 28-Pin Plastic Small Outline Package, 10.2 x 5.3 mm Body, 0.65 mm Pitch; SubFamily: RS-232; Supply Voltage(s)(V): 5; RS-232: TRUE; ComponentLink1Description: Manufacturer URL; ComponentLink1URL: www.ti.com; ComponentLink2Description: Datasheet; ComponentLink2URL: http://www.ti.com/general/docs/lit/getliterature.tsp?genericPartNumber=MAX213&fileType=pdf; ComponentLink3Description: Package Specification; ComponentLink3URL: http://www.ti.com/litv/pdf/msso002e
footprint TI-DB28_N (SOP, 28-Leads, Body 10.2x5.3mm, Pitch 0.65mm, IPC Medium Density)
footprint TI-DB28_L (SOP, 28-Leads, Body 10.2x5.3mm, Pitch 0.65mm, IPC High Density)
footprint TI-DB28_M (SOP, 28-Leads, Body 10.2x5.3mm, Pitch 0.65mm, IPC Low Density)
pins: 1 DOUT3 (hiz), 2 DOUT1 (hiz), 3 DOUT2 (hiz), 4 RIN2 (in), 5 ROUT2 (hiz), 6 DIN2 (in), 7 DIN1 (in), 8 ROUT1 (hiz), 9 RIN1 (in), 10 GND (power), 11 VCC (power), 12 C1+, 13 V+ (power), 14 C1-, 15 C2+, 16 C2-, 17 V- (power), 18 RIN5 (in), 19 ROUT5 (hiz), 20 DIN3 (in), 21 DIN4 (in), 22 ROUT4 (hiz), 23 RIN4 (in), 24 EN (in), 25 ~{SHDN} (in), 26 ROUT3 (hiz), 27 RIN3 (in), 28 DOUT4 (hiz)

## MAX213IDBR
designator U?
5-V Multichannel RS-232 Line Driver / Receiver with ±15-kV ESD Protection, -40 to 85 degC, 28-Pin SSOP (DB), Green (RoHS & no Sb/Br); Drivers Per Package: 4; Receivers Per Package: 5; ESD HBM(kV): +/-15; ICC(Max)(mA): 20; Single Supply: TRUE; DatasheetVersion: SLLS680; PackageVersion: revE, Dec-2001; PackageReference: DB28; PackageDescription: 28-Pin Plastic Small Outline Package, 10.2 x 5.3 mm Body, 0.65 mm Pitch; SubFamily: RS-232; Supply Voltage(s)(V): 5; RS-232: TRUE; ComponentLink1Description: Manufacturer URL; ComponentLink1URL: www.ti.com; ComponentLink2Description: Datasheet; ComponentLink2URL: http://www.ti.com/general/docs/lit/getliterature.tsp?genericPartNumber=MAX213&fileType=pdf; ComponentLink3Description: Package Specification; ComponentLink3URL: http://www.ti.com/litv/pdf/msso002e
footprint TI-DB28_N (SOP, 28-Leads, Body 10.2x5.3mm, Pitch 0.65mm, IPC Medium Density)
footprint TI-DB28_L (SOP, 28-Leads, Body 10.2x5.3mm, Pitch 0.65mm, IPC High Density)
footprint TI-DB28_M (SOP, 28-Leads, Body 10.2x5.3mm, Pitch 0.65mm, IPC Low Density)
pins: 1 DOUT3 (hiz), 2 DOUT1 (hiz), 3 DOUT2 (hiz), 4 RIN2 (in), 5 ROUT2 (hiz), 6 DIN2 (in), 7 DIN1 (in), 8 ROUT1 (hiz), 9 RIN1 (in), 10 GND (power), 11 VCC (power), 12 C1+, 13 V+ (power), 14 C1-, 15 C2+, 16 C2-, 17 V- (power), 18 RIN5 (in), 19 ROUT5 (hiz), 20 DIN3 (in), 21 DIN4 (in), 22 ROUT4 (hiz), 23 RIN4 (in), 24 EN (in), 25 ~{SHDN} (in), 26 ROUT3 (hiz), 27 RIN3 (in), 28 DOUT4 (hiz)

## MAX213IDBRG4
designator U?
5-V Multichannel RS-232 Line Driver / Receiver with ±15-kV ESD Protection, -40 to 85 degC, 28-Pin SSOP (DB), Green (RoHS & no Sb/Br); Drivers Per Package: 4; Receivers Per Package: 5; ESD HBM(kV): +/-15; ICC(Max)(mA): 20; Single Supply: TRUE; DatasheetVersion: SLLS680; PackageVersion: revE, Dec-2001; PackageReference: DB28; PackageDescription: 28-Pin Plastic Small Outline Package, 10.2 x 5.3 mm Body, 0.65 mm Pitch; SubFamily: RS-232; Supply Voltage(s)(V): 5; RS-232: TRUE; ComponentLink1Description: Manufacturer URL; ComponentLink1URL: www.ti.com; ComponentLink2Description: Datasheet; ComponentLink2URL: http://www.ti.com/general/docs/lit/getliterature.tsp?genericPartNumber=MAX213&fileType=pdf; ComponentLink3Description: Package Specification; ComponentLink3URL: http://www.ti.com/litv/pdf/msso002e
footprint TI-DB28_N (SOP, 28-Leads, Body 10.2x5.3mm, Pitch 0.65mm, IPC Medium Density)
footprint TI-DB28_L (SOP, 28-Leads, Body 10.2x5.3mm, Pitch 0.65mm, IPC High Density)
footprint TI-DB28_M (SOP, 28-Leads, Body 10.2x5.3mm, Pitch 0.65mm, IPC Low Density)
pins: 1 DOUT3 (hiz), 2 DOUT1 (hiz), 3 DOUT2 (hiz), 4 RIN2 (in), 5 ROUT2 (hiz), 6 DIN2 (in), 7 DIN1 (in), 8 ROUT1 (hiz), 9 RIN1 (in), 10 GND (power), 11 VCC (power), 12 C1+, 13 V+ (power), 14 C1-, 15 C2+, 16 C2-, 17 V- (power), 18 RIN5 (in), 19 ROUT5 (hiz), 20 DIN3 (in), 21 DIN4 (in), 22 ROUT4 (hiz), 23 RIN4 (in), 24 EN (in), 25 ~{SHDN} (in), 26 ROUT3 (hiz), 27 RIN3 (in), 28 DOUT4 (hiz)

## MAX213IDW
designator U?
5-V Multichannel RS-232 Line Driver / Receiver with ±15-kV ESD Protection, -40 to 85 degC, 28-Pin SOIC (DW), Green (RoHS & no Sb/Br); Drivers Per Package: 4; Receivers Per Package: 5; ESD HBM(kV): +/-15; ICC(Max)(mA): 20; Single Supply: TRUE; DatasheetVersion: SLLS680; PackageVersion: revG, Jan-2011; PackageReference: DW28; PackageDescription: 28-Pin Plastic Small Outline Integrated Circuit, 17.9 x 7.5 mm, Pitch 1.27 mm Pitch; SubFamily: RS-232; Supply Voltage(s)(V): 5; RS-232: TRUE; ComponentLink1Description: Manufacturer URL; ComponentLink1URL: www.ti.com; ComponentLink2Description: Datasheet; ComponentLink2URL: http://www.ti.com/general/docs/lit/getliterature.tsp?genericPartNumber=MAX213&fileType=pdf; ComponentLink3Description: Package Specification; ComponentLink3URL: http://www.ti.com/litv/pdf/mpds175a
footprint TI-DW28_N (SOIC, 28-Leads, Body 17.9x7.5mm, Pitch 1.27mm, IPC Medium Density)
footprint TI-DW28_L (SOIC, 28-Leads, Body 17.9x7.5mm, Pitch 1.27mm, IPC High Density)
footprint TI-DW28_M (SOIC, 28-Leads, Body 17.9x7.5mm, Pitch 1.27mm, IPC Low Density)
pins: 1 DOUT3 (hiz), 2 DOUT1 (hiz), 3 DOUT2 (hiz), 4 RIN2 (in), 5 ROUT2 (hiz), 6 DIN2 (in), 7 DIN1 (in), 8 ROUT1 (hiz), 9 RIN1 (in), 10 GND (power), 11 VCC (power), 12 C1+, 13 V+ (power), 14 C1-, 15 C2+, 16 C2-, 17 V- (power), 18 RIN5 (in), 19 ROUT5 (hiz), 20 DIN3 (in), 21 DIN4 (in), 22 ROUT4 (hiz), 23 RIN4 (in), 24 EN (in), 25 ~{SHDN} (in), 26 ROUT3 (hiz), 27 RIN3 (in), 28 DOUT4 (hiz)

## MAX213IDWG4
designator U?
5-V Multichannel RS-232 Line Driver / Receiver with ±15-kV ESD Protection, -40 to 85 degC, 28-Pin SOIC (DW), Green (RoHS & no Sb/Br); Drivers Per Package: 4; Receivers Per Package: 5; ESD HBM(kV): +/-15; ICC(Max)(mA): 20; Single Supply: TRUE; DatasheetVersion: SLLS680; PackageVersion: revG, Jan-2011; PackageReference: DW28; PackageDescription: 28-Pin Plastic Small Outline Integrated Circuit, 17.9 x 7.5 mm, Pitch 1.27 mm Pitch; SubFamily: RS-232; Supply Voltage(s)(V): 5; RS-232: TRUE; ComponentLink1Description: Manufacturer URL; ComponentLink1URL: www.ti.com; ComponentLink2Description: Datasheet; ComponentLink2URL: http://www.ti.com/general/docs/lit/getliterature.tsp?genericPartNumber=MAX213&fileType=pdf; ComponentLink3Description: Package Specification; ComponentLink3URL: http://www.ti.com/litv/pdf/mpds175a
footprint TI-DW28_N (SOIC, 28-Leads, Body 17.9x7.5mm, Pitch 1.27mm, IPC Medium Density)
footprint TI-DW28_L (SOIC, 28-Leads, Body 17.9x7.5mm, Pitch 1.27mm, IPC High Density)
footprint TI-DW28_M (SOIC, 28-Leads, Body 17.9x7.5mm, Pitch 1.27mm, IPC Low Density)
pins: 1 DOUT3 (hiz), 2 DOUT1 (hiz), 3 DOUT2 (hiz), 4 RIN2 (in), 5 ROUT2 (hiz), 6 DIN2 (in), 7 DIN1 (in), 8 ROUT1 (hiz), 9 RIN1 (in), 10 GND (power), 11 VCC (power), 12 C1+, 13 V+ (power), 14 C1-, 15 C2+, 16 C2-, 17 V- (power), 18 RIN5 (in), 19 ROUT5 (hiz), 20 DIN3 (in), 21 DIN4 (in), 22 ROUT4 (hiz), 23 RIN4 (in), 24 EN (in), 25 ~{SHDN} (in), 26 ROUT3 (hiz), 27 RIN3 (in), 28 DOUT4 (hiz)

## MAX213IDWR
designator U?
5-V Multichannel RS-232 Line Driver / Receiver with ±15-kV ESD Protection, -40 to 85 degC, 28-Pin SOIC (DW), Green (RoHS & no Sb/Br); Drivers Per Package: 4; Receivers Per Package: 5; ESD HBM(kV): +/-15; ICC(Max)(mA): 20; Single Supply: TRUE; DatasheetVersion: SLLS680; PackageVersion: revG, Jan-2011; PackageReference: DW28; PackageDescription: 28-Pin Plastic Small Outline Integrated Circuit, 17.9 x 7.5 mm, Pitch 1.27 mm Pitch; SubFamily: RS-232; Supply Voltage(s)(V): 5; RS-232: TRUE; ComponentLink1Description: Manufacturer URL; ComponentLink1URL: www.ti.com; ComponentLink2Description: Datasheet; ComponentLink2URL: http://www.ti.com/general/docs/lit/getliterature.tsp?genericPartNumber=MAX213&fileType=pdf; ComponentLink3Description: Package Specification; ComponentLink3URL: http://www.ti.com/litv/pdf/mpds175a
footprint TI-DW28_N (SOIC, 28-Leads, Body 17.9x7.5mm, Pitch 1.27mm, IPC Medium Density)
footprint TI-DW28_L (SOIC, 28-Leads, Body 17.9x7.5mm, Pitch 1.27mm, IPC High Density)
footprint TI-DW28_M (SOIC, 28-Leads, Body 17.9x7.5mm, Pitch 1.27mm, IPC Low Density)
pins: 1 DOUT3 (hiz), 2 DOUT1 (hiz), 3 DOUT2 (hiz), 4 RIN2 (in), 5 ROUT2 (hiz), 6 DIN2 (in), 7 DIN1 (in), 8 ROUT1 (hiz), 9 RIN1 (in), 10 GND (power), 11 VCC (power), 12 C1+, 13 V+ (power), 14 C1-, 15 C2+, 16 C2-, 17 V- (power), 18 RIN5 (in), 19 ROUT5 (hiz), 20 DIN3 (in), 21 DIN4 (in), 22 ROUT4 (hiz), 23 RIN4 (in), 24 EN (in), 25 ~{SHDN} (in), 26 ROUT3 (hiz), 27 RIN3 (in), 28 DOUT4 (hiz)

## MAX213IDWRG4
designator U?
5-V Multichannel RS-232 Line Driver / Receiver with ±15-kV ESD Protection, -40 to 85 degC, 28-Pin SOIC (DW), Green (RoHS & no Sb/Br); Drivers Per Package: 4; Receivers Per Package: 5; ESD HBM(kV): +/-15; ICC(Max)(mA): 20; Single Supply: TRUE; DatasheetVersion: SLLS680; PackageVersion: revG, Jan-2011; PackageReference: DW28; PackageDescription: 28-Pin Plastic Small Outline Integrated Circuit, 17.9 x 7.5 mm, Pitch 1.27 mm Pitch; SubFamily: RS-232; Supply Voltage(s)(V): 5; RS-232: TRUE; ComponentLink1Description: Manufacturer URL; ComponentLink1URL: www.ti.com; ComponentLink2Description: Datasheet; ComponentLink2URL: http://www.ti.com/general/docs/lit/getliterature.tsp?genericPartNumber=MAX213&fileType=pdf; ComponentLink3Description: Package Specification; ComponentLink3URL: http://www.ti.com/litv/pdf/mpds175a
footprint TI-DW28_N (SOIC, 28-Leads, Body 17.9x7.5mm, Pitch 1.27mm, IPC Medium Density)
footprint TI-DW28_L (SOIC, 28-Leads, Body 17.9x7.5mm, Pitch 1.27mm, IPC High Density)
footprint TI-DW28_M (SOIC, 28-Leads, Body 17.9x7.5mm, Pitch 1.27mm, IPC Low Density)
pins: 1 DOUT3 (hiz), 2 DOUT1 (hiz), 3 DOUT2 (hiz), 4 RIN2 (in), 5 ROUT2 (hiz), 6 DIN2 (in), 7 DIN1 (in), 8 ROUT1 (hiz), 9 RIN1 (in), 10 GND (power), 11 VCC (power), 12 C1+, 13 V+ (power), 14 C1-, 15 C2+, 16 C2-, 17 V- (power), 18 RIN5 (in), 19 ROUT5 (hiz), 20 DIN3 (in), 21 DIN4 (in), 22 ROUT4 (hiz), 23 RIN4 (in), 24 EN (in), 25 ~{SHDN} (in), 26 ROUT3 (hiz), 27 RIN3 (in), 28 DOUT4 (hiz)

## MAX222CDW
designator U?
5-V Dual RS-232 Line Driver / Receiver with ±15-kV ESD Protection, 0 to 70 degC, 18-Pin SOIC (DW), Green (RoHS & no Sb/Br); Drivers Per Package: 2; Supply Voltage(s)(V): 5; ESD HBM(kV): +/-15; ICC(Max)(mA): 10; Single Supply: TRUE; DatasheetVersion: SLLS590D; PackageVersion: revG, Jan-2011; PackageReference: DW18; PackageDescription: 18-Pin Plastic Small Outline Integrated Circuit, 11.6 x 7.5 mm, Pitch 1.27 mm Pitch; SubFamily: RS-232; Receivers Per Package: 2; RS-232: TRUE; ComponentLink1Description: Manufacturer URL; ComponentLink1URL: www.ti.com; ComponentLink2Description: Datasheet; ComponentLink2URL: http://www.ti.com/general/docs/lit/getliterature.tsp?genericPartNumber=MAX222&fileType=pdf; ComponentLink3Description: Package Specification; ComponentLink3URL: http://www.ti.com/litv/pdf/mpds172a
footprint TI-DW18_N (SOIC, 18-Leads, Body 11.6x7.5mm, Pitch 1.27mm, IPC Medium Density)
footprint TI-DW18_L (SOIC, 18-Leads, Body 11.6x7.5mm, Pitch 1.27mm, IPC High Density)
footprint TI-DW18_M (SOIC, 18-Leads, Body 11.6x7.5mm, Pitch 1.27mm, IPC Low Density)
pins: 1 NC, 2 C1+, 3 V+ (power), 4 C1-, 5 C2+, 6 C2-, 7 V- (power), 8 DOUT2 (out), 9 RIN2 (in), 10 ROUT2 (out), 11 DIN2 (in), 12 DIN1 (in), 13 ROUT1 (out), 14 RIN1 (in), 15 DOUT1 (out), 16 GND (power), 17 VCC (power), 18 ~{SHDN} (in)

## MAX222CDWG4
designator U?
5-V Dual RS-232 Line Driver / Receiver with ±15-kV ESD Protection, 0 to 70 degC, 18-Pin SOIC (DW), Green (RoHS & no Sb/Br); Drivers Per Package: 2; Supply Voltage(s)(V): 5; ESD HBM(kV): +/-15; ICC(Max)(mA): 10; Single Supply: TRUE; DatasheetVersion: SLLS590D; PackageVersion: revG, Jan-2011; PackageReference: DW18; PackageDescription: 18-Pin Plastic Small Outline Integrated Circuit, 11.6 x 7.5 mm, Pitch 1.27 mm Pitch; SubFamily: RS-232; Receivers Per Package: 2; RS-232: TRUE; ComponentLink1Description: Manufacturer URL; ComponentLink1URL: www.ti.com; ComponentLink2Description: Datasheet; ComponentLink2URL: http://www.ti.com/general/docs/lit/getliterature.tsp?genericPartNumber=MAX222&fileType=pdf; ComponentLink3Description: Package Specification; ComponentLink3URL: http://www.ti.com/litv/pdf/mpds172a
footprint TI-DW18_N (SOIC, 18-Leads, Body 11.6x7.5mm, Pitch 1.27mm, IPC Medium Density)
footprint TI-DW18_L (SOIC, 18-Leads, Body 11.6x7.5mm, Pitch 1.27mm, IPC High Density)
footprint TI-DW18_M (SOIC, 18-Leads, Body 11.6x7.5mm, Pitch 1.27mm, IPC Low Density)
pins: 1 NC, 2 C1+, 3 V+ (power), 4 C1-, 5 C2+, 6 C2-, 7 V- (power), 8 DOUT2 (out), 9 RIN2 (in), 10 ROUT2 (out), 11 DIN2 (in), 12 DIN1 (in), 13 ROUT1 (out), 14 RIN1 (in), 15 DOUT1 (out), 16 GND (power), 17 VCC (power), 18 ~{SHDN} (in)

## MAX222CDWR
designator U?
5-V Dual RS-232 Line Driver / Receiver with ±15-kV ESD Protection, 0 to 70 degC, 18-Pin SOIC (DW), Green (RoHS & no Sb/Br); Drivers Per Package: 2; Supply Voltage(s)(V): 5; ESD HBM(kV): +/-15; ICC(Max)(mA): 10; Single Supply: TRUE; DatasheetVersion: SLLS590D; PackageVersion: revG, Jan-2011; PackageReference: DW18; PackageDescription: 18-Pin Plastic Small Outline Integrated Circuit, 11.6 x 7.5 mm, Pitch 1.27 mm Pitch; SubFamily: RS-232; Receivers Per Package: 2; RS-232: TRUE; ComponentLink1Description: Manufacturer URL; ComponentLink1URL: www.ti.com; ComponentLink2Description: Datasheet; ComponentLink2URL: http://www.ti.com/general/docs/lit/getliterature.tsp?genericPartNumber=MAX222&fileType=pdf; ComponentLink3Description: Package Specification; ComponentLink3URL: http://www.ti.com/litv/pdf/mpds172a
footprint TI-DW18_N (SOIC, 18-Leads, Body 11.6x7.5mm, Pitch 1.27mm, IPC Medium Density)
footprint TI-DW18_L (SOIC, 18-Leads, Body 11.6x7.5mm, Pitch 1.27mm, IPC High Density)
footprint TI-DW18_M (SOIC, 18-Leads, Body 11.6x7.5mm, Pitch 1.27mm, IPC Low Density)
pins: 1 NC, 2 C1+, 3 V+ (power), 4 C1-, 5 C2+, 6 C2-, 7 V- (power), 8 DOUT2 (out), 9 RIN2 (in), 10 ROUT2 (out), 11 DIN2 (in), 12 DIN1 (in), 13 ROUT1 (out), 14 RIN1 (in), 15 DOUT1 (out), 16 GND (power), 17 VCC (power), 18 ~{SHDN} (in)

## MAX222CDWRG4
designator U?
5-V Dual RS-232 Line Driver / Receiver with ±15-kV ESD Protection, 0 to 70 degC, 18-Pin SOIC (DW), Green (RoHS & no Sb/Br); Drivers Per Package: 2; Supply Voltage(s)(V): 5; ESD HBM(kV): +/-15; ICC(Max)(mA): 10; Single Supply: TRUE; DatasheetVersion: SLLS590D; PackageVersion: revG, Jan-2011; PackageReference: DW18; PackageDescription: 18-Pin Plastic Small Outline Integrated Circuit, 11.6 x 7.5 mm, Pitch 1.27 mm Pitch; SubFamily: RS-232; Receivers Per Package: 2; RS-232: TRUE; ComponentLink1Description: Manufacturer URL; ComponentLink1URL: www.ti.com; ComponentLink2Description: Datasheet; ComponentLink2URL: http://www.ti.com/general/docs/lit/getliterature.tsp?genericPartNumber=MAX222&fileType=pdf; ComponentLink3Description: Package Specification; ComponentLink3URL: http://www.ti.com/litv/pdf/mpds172a
footprint TI-DW18_N (SOIC, 18-Leads, Body 11.6x7.5mm, Pitch 1.27mm, IPC Medium Density)
footprint TI-DW18_L (SOIC, 18-Leads, Body 11.6x7.5mm, Pitch 1.27mm, IPC High Density)
footprint TI-DW18_M (SOIC, 18-Leads, Body 11.6x7.5mm, Pitch 1.27mm, IPC Low Density)
pins: 1 NC, 2 C1+, 3 V+ (power), 4 C1-, 5 C2+, 6 C2-, 7 V- (power), 8 DOUT2 (out), 9 RIN2 (in), 10 ROUT2 (out), 11 DIN2 (in), 12 DIN1 (in), 13 ROUT1 (out), 14 RIN1 (in), 15 DOUT1 (out), 16 GND (power), 17 VCC (power), 18 ~{SHDN} (in)

## MAX222CN
designator U?
5-V Dual RS-232 Line Driver / Receiver with ±15-kV ESD Protection, 0 to 70 degC, 18-Pin PDIP (N), Pb-Free (RoHS); Drivers Per Package: 2; Supply Voltage(s)(V): 5; ESD HBM(kV): +/-15; ICC(Max)(mA): 10; Single Supply: TRUE; DatasheetVersion: SLLS590D; PackageVersion: revE, Dec-2002; PackageReference: N18; PackageDescription: 18-Pin Plastic Dual-In-Line Package, Row Spacing 7.62 mm, Pitch 2.54 mm; SubFamily: RS-232; Receivers Per Package: 2; RS-232: TRUE; ComponentLink1Description: Manufacturer URL; ComponentLink1URL: www.ti.com; ComponentLink2Description: Datasheet; ComponentLink2URL: http://www.ti.com/general/docs/lit/getliterature.tsp?genericPartNumber=MAX222&fileType=pdf; ComponentLink3Description: Package Specification; ComponentLink3URL: NO URL
footprint TI-N18 (DIP, 18-Leads, Row Spacing 7.62mm, Pitch 2.54mm, Body 22.5x6.4mm)
pins: 1 NC, 2 C1+, 3 V+ (power), 4 C1-, 5 C2+, 6 C2-, 7 V- (power), 8 DOUT2 (out), 9 RIN2 (in), 10 ROUT2 (out), 11 DIN2 (in), 12 DIN1 (in), 13 ROUT1 (out), 14 RIN1 (in), 15 DOUT1 (out), 16 GND (power), 17 VCC (power), 18 ~{SHDN} (in)

## MAX222CNE4
designator U?
5-V Dual RS-232 Line Driver / Receiver with ±15-kV ESD Protection, 0 to 70 degC, 18-Pin PDIP (N), Pb-Free (RoHS); Drivers Per Package: 2; Supply Voltage(s)(V): 5; ESD HBM(kV): +/-15; ICC(Max)(mA): 10; Single Supply: TRUE; DatasheetVersion: SLLS590D; PackageVersion: revE, Dec-2002; PackageReference: N18; PackageDescription: 18-Pin Plastic Dual-In-Line Package, Row Spacing 7.62 mm, Pitch 2.54 mm; SubFamily: RS-232; Receivers Per Package: 2; RS-232: TRUE; ComponentLink1Description: Manufacturer URL; ComponentLink1URL: www.ti.com; ComponentLink2Description: Datasheet; ComponentLink2URL: http://www.ti.com/general/docs/lit/getliterature.tsp?genericPartNumber=MAX222&fileType=pdf; ComponentLink3Description: Package Specification; ComponentLink3URL: NO URL
footprint TI-N18 (DIP, 18-Leads, Row Spacing 7.62mm, Pitch 2.54mm, Body 22.5x6.4mm)
pins: 1 NC, 2 C1+, 3 V+ (power), 4 C1-, 5 C2+, 6 C2-, 7 V- (power), 8 DOUT2 (out), 9 RIN2 (in), 10 ROUT2 (out), 11 DIN2 (in), 12 DIN1 (in), 13 ROUT1 (out), 14 RIN1 (in), 15 DOUT1 (out), 16 GND (power), 17 VCC (power), 18 ~{SHDN} (in)